# EAGLE library part 3.3TVS (library usb)
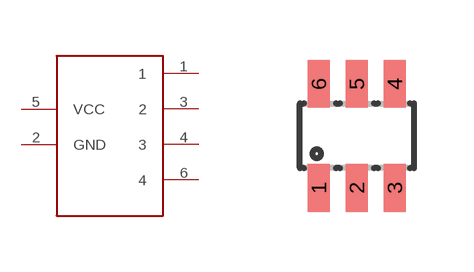
[diagram p0: symbol with the pads of SOT23-6L; footprint SOT23-6L]

Designator prefix -

## 3.3TVS  [SOT23-6L]
1  1
2  GND
3  2
4  3
5  VCC
6  4

## Footprint SOT23-6L (pad centres in mm)
Small Outline Transistor
smd 0.55 x 1.2: 1 -0.95,-1.3; 2 0,-1.3; 3 0.95,-1.3; 4 0.95,1.3; 5 0,1.3; 6 -0.95,1.3